# Altium footprint library Virtex.PcbLib: 30 footprints (part 2 of 2)
Each footprint in its own frame and in the unit in brackets; x right, y up, seen from the top. Pads: shape width x height; smd on the part's side, far side on the other; paste and mask are expansions set on the pad; w line width, h text height; cw(c..) or ccw(c..) is an arc to the next point about the centre after c.
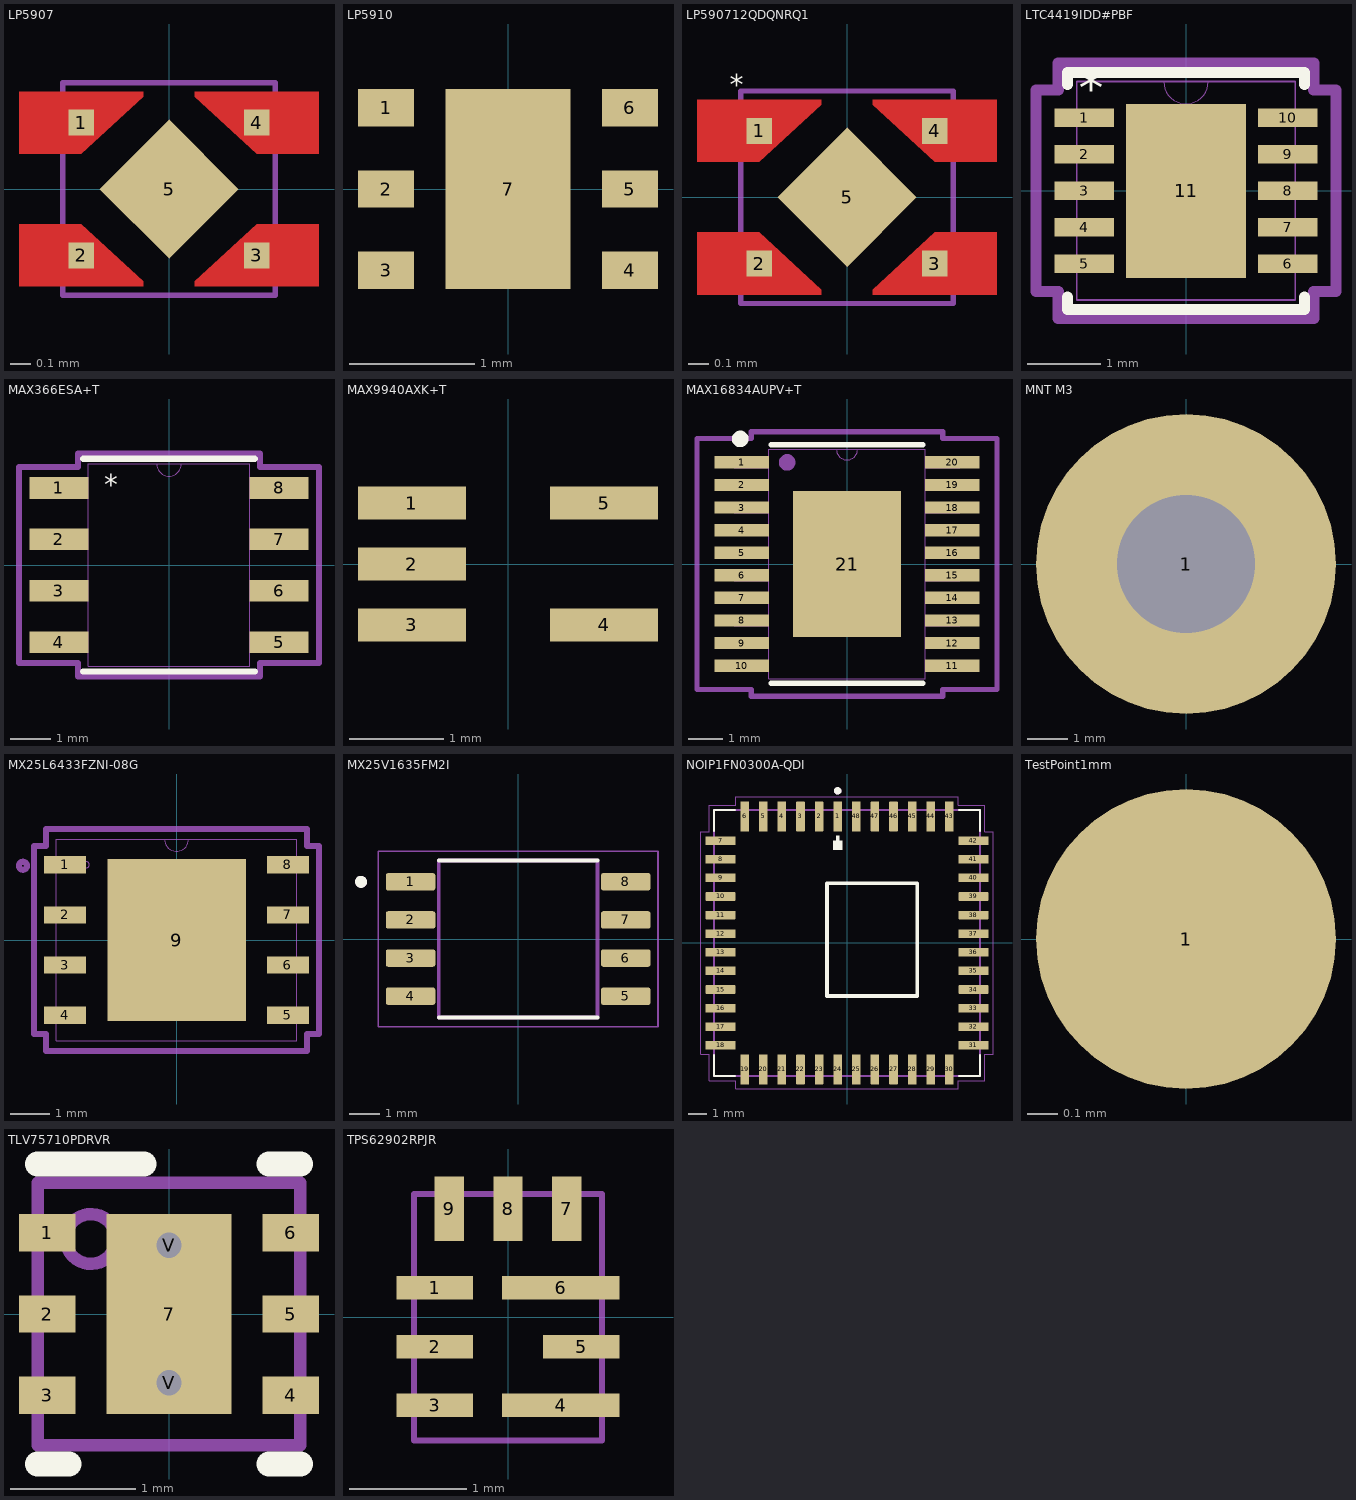
[diagram p1: the footprints below, top view; thin cyan lines are the x and y axes]

## LP5907 [mil]
pads (5):
  rect 5x5 smd: 1(-16.93,12.8) 2(-16.93,-12.8) 3(16.93,-12.8) 4(16.93,12.8)
  rect 19x19 smd rot 45 paste-9.5 mask+0: 5(0,0)
Top Layer:
  region: -4.93,17.8 -4.93,18.8 -28.93,18.8 -28.93,6.8 -16.93,6.8
  region: 4.93,17.8 4.93,18.8 28.93,18.8 28.93,6.8 16.93,6.8
  region: 4.93,-17.8 4.93,-18.8 28.93,-18.8 28.93,-6.8 16.93,-6.8
  region: 0,-9.5
  region: 0,9.5
  region: -4.93,-17.8 -4.93,-18.8 -28.93,-18.8 -28.93,-6.8 -16.93,-6.8
Top Solder:
  region: 0,-9.5
  region: 0,9.5
Mechanical 13:
  lines w1: -20.5,-20.5 -20.5,20.5 20.5,20.5 20.5,-20.5 -20.5,-20.5
  text "*" at -23.45,20.26 h3.94
3D body "LP590712QDQNRQ1.stp": height 14.39, standoff 0.21, extent -19.69,-19.68 19.68,19.69

## LP5910 [mm]
pads (7):
  rect 0.45x0.3 smd: 1(-0.975,0.65) 2(-0.975,0) 3(-0.975,-0.65) 4(0.975,-0.65) 5(0.975,0) 6(0.975,0.65)
  rect 1x1.6 smd: 7(0,0)
3D body "LP5910-18DRVR.step": height 0.8, standoff 0, extent -1,-1 1,1

## LP590712QDQNRQ1 [mil]
pads (5):
  rect 5x5 smd: 1(-16.93,12.8) 2(-16.93,-12.8) 3(16.93,-12.8) 4(16.93,12.8)
  rect 19x19 smd rot 45 paste-9.5 mask+0: 5(0,0)
Top Layer:
  region: -4.93,-17.8 -4.93,-18.8 -28.93,-18.8 -28.93,-6.8 -16.93,-6.8
  region: 0,9.5
  region: 0,-9.5
  region: 4.93,-17.8 4.93,-18.8 28.93,-18.8 28.93,-6.8 16.93,-6.8
  region: 4.93,17.8 4.93,18.8 28.93,18.8 28.93,6.8 16.93,6.8
  region: -4.93,17.8 -4.93,18.8 -28.93,18.8 -28.93,6.8 -16.93,6.8
Top Overlay:
  text "*" at -22.61,19.74 h3.94
Top Solder:
  region: 0,9.5
  region: 0,-9.5
Mechanical 13:
  lines w1: -20.5,-20.5 20.5,-20.5 20.5,20.5 -20.5,20.5 -20.5,-20.5
3D body "LP590712QDQNRQ1.stp": height 14.39, standoff 0.21, extent -19.69,-19.68 19.68,19.69

## LTC4419IDD#PBF [mil]
pads (11):
  rect 32x10 smd paste+0 mask+0: 1(-55,39.37) 2(-55,19.68) 3(-55,0) 4(-55,-19.68) 5(-55,-39.37) 6(55,-39.37) 7(55,-19.68) 8(55,0) 9(55,19.68) 10(55,39.37)
  rect 65x94 smd paste+0 mask+0: 11(0,0)
Top Overlay:
  lines w6: -64,-57.47 -64,-64 64,-64 64,-57.47 ; -64,57.47 -64,64 64,64 64,57.47
  text "*" at -58.03,45.69 h19.68
Mechanical 13:
  lines w0: -12,59 ccw(c0,59) 12,59
  lines w1: -59,-59 -59,59 59,59 59,-59 -59,-59
Mechanical 15:
  lines w6: -81,-54.37 -69,-54.37 -69,-69 69,-69 69,-54.37 81,-54.37 81,54.37 69,54.37 69,69 -69,69 -69,54.37 -81,54.37 -81,-54.37
3D body: height 10, standoff 0, extent 0,0 10,10
3D body "LTC4419IDD#PBF.step": height 31.5, standoff 0, extent -59,-59.06 59.11,59.06

## MAX366ESA+T [mil]
pads (8):
  rect 57.5x21 smd paste+0 mask+0: 1(-107.25,75) 2(-107.25,25) 3(-107.25,-25) 4(-107.25,-75) 5(107.25,-75) 6(107.25,-25) 7(107.25,25) 8(107.25,75)
Top Overlay:
  lines w6: -83.5,-103.5 83.5,-103.5 ; -83.5,103.5 83.5,103.5
  text "*" at -63,69 h19.68
Mechanical 13:
  lines w0: -12,98.5 ccw(c0,98.5) 12,98.5
  lines w1: -122,-84.5 -78.5,-84.5 -78.5,-65.5 -122,-65.5 -122,-84.5 ; -122,-34.5 -78.5,-34.5 -78.5,-15.5 -122,-15.5 -122,-34.5 ; -122,15.5 -78.5,15.5 -78.5,34.5 -122,34.5 -122,15.5 ; -122,65.5 -78.5,65.5 -78.5,84.5 -122,84.5 -122,65.5 ; -78.5,-98.5 -78.5,98.5 78.5,98.5 78.5,-98.5 -78.5,-98.5 ; 78.5,-84.5 122,-84.5 122,-65.5 78.5,-65.5 78.5,-84.5 ; 78.5,-34.5 122,-34.5 122,-15.5 78.5,-15.5 78.5,-34.5 ; 78.5,15.5 122,15.5 122,34.5 78.5,34.5 78.5,15.5 ; 78.5,65.5 122,65.5 122,84.5 78.5,84.5 78.5,65.5
  text "*" at -63,69 h19.68
Mechanical 15:
  lines w6: -146,-95.5 -88.5,-95.5 -88.5,-108.5 88.5,-108.5 88.5,-95.5 146,-95.5 146,95.5 88.5,95.5 88.5,108.5 -88.5,108.5 -88.5,95.5 -146,95.5 -146,-95.5
3D body: height 10, standoff 0, extent 0,0 10,10
3D body "MAX366ESA+T.step": height 69.09, standoff 0, extent -122,-97.5 122.01,99.51

## MAX9940AXK+T [mm]
pads (5):
  rect 1.15x0.35 smd paste+0 mask+0: 1(-1.025,0.65) 2(-1.025,0) 3(-1.025,-0.65) 4(1.025,-0.65) 5(1.025,0.65)
3D body "MAX9940.step": height 1.09, standoff 0, extent -1.194,-1.105 1.194,1.105

## MAX16834AUPV+T [mil]
pads (21):
  rect 61.5x14 smd paste+0 mask+0: 1(-119.25,115.16) 2(-119.25,89.57) 3(-119.25,63.98) 4(-119.25,38.39) 5(-119.25,12.8) 6(-119.25,-12.8) 7(-119.25,-38.39) 8(-119.25,-63.98) 9(-119.25,-89.57) 10(-119.25,-115.16) 11(119.25,-115.16) 12(119.25,-89.57) 13(119.25,-63.98) 14(119.25,-38.39) 15(119.25,-12.8) 16(119.25,12.8) 17(119.25,38.39) 18(119.25,63.98) 19(119.25,89.57) 20(119.25,115.16)
  rect 122x165 smd paste-82 mask+0: 21(0,0)
Top Overlay:
  circle w10: c-121.06,141.73 r4.4
  lines w6: -85.92,-135 85.92,-135 ; -85.92,135 85.92,135
Top Paste:
  region: 57.06,-31.44 3.94,-31.44 3.94,-78.56 57.06,-78.56
  region: 57.06,23.56 3.94,23.56 3.94,-23.56 57.06,-23.56
  region: 57.06,78.56 3.94,78.56 3.94,31.44 57.06,31.44
  region: -3.94,-31.44 -57.06,-31.44 -57.06,-78.56 -3.94,-78.56
  region: -3.94,23.56 -57.06,23.56 -57.06,-23.56 -3.94,-23.56
  region: -3.94,78.56 -57.06,78.56 -57.06,31.44 -3.94,31.44
Mechanical 13:
  circle w10: c-67.91,115.16 r4.4
  lines w0: -12,130 ccw(c0,130) 12,130
  lines w1: -128,-121.16 -88.5,-121.16 -88.5,-109.16 -128,-109.16 -128,-121.16 ; -128,-95.57 -88.5,-95.57 -88.5,-83.57 -128,-83.57 -128,-95.57 ; -128,-69.98 -88.5,-69.98 -88.5,-57.98 -128,-57.98 -128,-69.98 ; -128,-44.39 -88.5,-44.39 -88.5,-32.39 -128,-32.39 -128,-44.39 ; -128,-18.8 -88.5,-18.8 -88.5,-6.8 -128,-6.8 -128,-18.8 ; -128,6.8 -88.5,6.8 -88.5,18.8 -128,18.8 -128,6.8 ; -128,32.39 -88.5,32.39 -88.5,44.39 -128,44.39 -128,32.39 ; -128,57.98 -88.5,57.98 -88.5,69.98 -128,69.98 -128,57.98 ; -128,83.57 -88.5,83.57 -88.5,95.57 -128,95.57 -128,83.57 ; -128,109.16 -88.5,109.16 -88.5,121.16 -128,121.16 -128,109.16 ; -88.5,-130 -88.5,130 88.5,130 88.5,-130 -88.5,-130 ; 88.5,-121.16 128,-121.16 128,-109.16 88.5,-109.16 88.5,-121.16 ; 88.5,-95.57 128,-95.57 128,-83.57 88.5,-83.57 88.5,-95.57 ; 88.5,-69.98 128,-69.98 128,-57.98 88.5,-57.98 88.5,-69.98 ; 88.5,-44.39 128,-44.39 128,-32.39 88.5,-32.39 88.5,-44.39 ; 88.5,-18.8 128,-18.8 128,-6.8 88.5,-6.8 88.5,-18.8 ; 88.5,6.8 128,6.8 128,18.8 88.5,18.8 88.5,6.8 ; 88.5,32.39 128,32.39 128,44.39 88.5,44.39 88.5,32.39 ; 88.5,57.98 128,57.98 128,69.98 88.5,69.98 88.5,57.98 ; 88.5,83.57 128,83.57 128,95.57 88.5,95.57 88.5,83.57 ; 88.5,109.16 128,109.16 128,121.16 88.5,121.16 88.5,109.16
Mechanical 15:
  lines w6: -170,-142.16 -108.5,-142.16 -108.5,-150 108.5,-150 108.5,-142.16 170,-142.16 170,142.16 108.5,142.16 108.5,150 -108.5,150 -108.5,142.16 -170,142.16 -170,-142.16
3D body: height 10, standoff 0, extent 0,0 10,10
3D body "MAX16834AUPV+T.step": height 43.11, standoff -2.01, extent -127.99,-130 127.99,130

## MNT M3 [mm]
pads (1):
  round 7.4 hole 3.4 unplated: 1(0,0)

## MX25L6433FZNI-08G [mil]
pads (9):
  rect 42x17 smd paste+0 mask+0: 1(-111,75) 2(-111,25) 3(-111,-25) 4(-111,-75) 5(111,-75) 6(111,-25) 7(111,25) 8(111,75)
  rect 138x161 smd paste+0 mask+0: 9(0,0)
Top Paste:
  region: 65.06,-30.77 3.94,-30.77 3.94,-76.56 65.06,-76.56
  region: 65.06,22.9 3.94,22.9 3.94,-22.9 65.06,-22.9
  region: 65.06,76.56 3.94,76.56 3.94,30.77 65.06,30.77
  region: -3.94,-30.77 -65.06,-30.77 -65.06,-76.56 -3.94,-76.56
  region: -3.94,22.9 -65.06,22.9 -65.06,-22.9 -3.94,-22.9
  region: -3.94,76.56 -65.06,76.56 -65.06,30.77 -3.94,30.77
Mechanical 13:
  circle w6: c-153,74 r4
  circle w0: c-90,75 r3
  lines w0: -12,100.5 ccw(c0,100.5) 12,100.5
  lines w1: -120,-100.5 -120,100.5 120,100.5 120,-100.5 -120,-100.5
Mechanical 15:
  lines w6: -142,-93.5 -130,-93.5 -130,-110.5 130,-110.5 130,-93.5 142,-93.5 142,93.5 130,93.5 130,110.5 -130,110.5 -130,93.5 -142,93.5 -142,-93.5
3D body: height 10, standoff 0, extent 0,0 10,10
3D body "MX25L3233FZNI-08Q.step": height 32.09, standoff 0, extent -120,-100.51 120,100.52

## MX25V1635FM2I [mm]
pads (8):
  rrect25% 1.65x0.58 smd: 1(-3.585,1.905) 2(-3.585,0.635) 3(-3.585,-0.635) 4(-3.585,-1.905) 5(3.585,-1.905) 6(3.585,-0.635) 7(3.585,0.635) 8(3.585,1.905)
Top Overlay:
  circle w0.2: c-5.235,1.905 r0.1
  lines w0.127: -2.645,-2.62 2.645,-2.62 ; -2.645,2.62 2.645,2.62
Mechanical 13:
  circle w0.2: c-5.235,1.905 r0.1
  lines w0.127: -2.645,-2.62 2.645,-2.62 2.645,2.62 -2.645,2.62 -2.645,-2.62
Mechanical 15:
  lines w0.05: -4.66,-2.925 4.66,-2.925 4.66,2.925 -4.66,2.925 -4.66,-2.925
3D body "MX25V1635FM2I.step": height 1.95, standoff 0, extent -3.9,-2.64 3.95,2.64

## NOIP1FN0300A-QDI [mm]
pads (48):
  rrect12% 0.47x1.63 smd: 1(-0.508,6.905) 2(-1.524,6.905) 3(-2.54,6.905) 4(-3.556,6.905) 5(-4.572,6.905) 6(-5.588,6.905) 19(-5.588,-6.905) 20(-4.572,-6.905) 21(-3.556,-6.905) 22(-2.54,-6.905) 23(-1.524,-6.905) 24(-0.508,-6.905) 25(0.508,-6.905) 26(1.524,-6.905) 27(2.54,-6.905) 28(3.556,-6.905) 29(4.572,-6.905) 30(5.588,-6.905) 43(5.588,6.905) 44(4.572,6.905) 45(3.556,6.905) 46(2.54,6.905) 47(1.524,6.905) 48(0.508,6.905)
  rrect12% 1.63x0.47 smd: 7(-6.905,5.588) 8(-6.905,4.572) 9(-6.905,3.556) 10(-6.905,2.54) 11(-6.905,1.524) 12(-6.905,0.508) 13(-6.905,-0.508) 14(-6.905,-1.524) 15(-6.905,-2.54) 16(-6.905,-3.556) 17(-6.905,-4.572) 18(-6.905,-5.588) 31(6.905,-5.588) 32(6.905,-4.572) 33(6.905,-3.556) 34(6.905,-2.54) 35(6.905,-1.524) 36(6.905,-0.508) 37(6.905,0.508) 38(6.905,1.524) 39(6.905,2.54) 40(6.905,3.556) 41(6.905,4.572) 42(6.905,5.588)
Top Overlay:
  circle w0.2: c-0.508,8.306 r0.1
  rectangle: -0.762,5.08 -0.254,5.588
  rectangle: -0.608,5.486 -0.4,5.867
  lines w0.127: -7.26,-6.127 -7.26,-7.26 -6.127,-7.26 ; -7.26,6.127 -7.26,7.26 -6.127,7.26 ; 6.127,-7.26 7.26,-7.26 7.26,-6.127 ; 6.127,7.26 7.26,7.26 7.26,6.127
  lines w0.2: -1.088,-2.892 3.828,-2.892 3.828,3.252 -1.088,3.252 -1.088,-2.892
Mechanical 13:
  circle w0.2: c-0.508,8.306 r0.1
  lines w0.127: -7.26,-7.26 7.26,-7.26 7.26,7.26 -7.26,7.26 -7.26,-7.26
Mechanical 15:
  lines w0.05: -7.97,-6.08 -7.97,6.08 -7.51,6.08 -7.51,7.51 -6.08,7.51 -6.08,7.97 6.08,7.97 6.08,7.51 7.51,7.51 7.51,6.08 7.97,6.08 7.97,-6.08 7.51,-6.08 7.51,-7.51 6.08,-7.51 6.08,-7.97 -6.08,-7.97 -6.08,-7.51 -7.51,-7.51 -7.51,-6.08 -7.97,-6.08
3D body "NOIP1FN0300A-QDI.step": height 2.32, standoff 0.04, extent -7.11,-7.11 7.11,7.11

## TestPoint1mm [mm]
pads (1):
  round 1 smd: 1(0,0)

## TLV75710PDRVR [mm]
pads (9):
  rect 0.45x0.3 smd paste+0 mask+0: 1(-0.975,0.65) 2(-0.975,0) 3(-0.975,-0.65) 4(0.975,-0.65) 5(0.975,0) 6(0.975,0.65)
  rect 1x1.6 smd paste-0.5 mask+0: 7(0,0)
  round 0.5 hole 0.203 mask+0: V(0,-0.55) V(0,0.55)
Top Overlay:
  lines w0.2: -1.05,-1.2 -0.8,-1.2 ; -1.05,1.2 -0.2,1.2 ; 0.8,-1.2 1.05,-1.2 ; 0.8,1.2 1.05,1.2
Top Paste:
  region: -0.499,-0.761 -0.5,-0.751 -0.5,-0.149 -0.499,-0.139 -0.496,-0.13 -0.492,-0.122 -0.486,-0.114 -0.478,-0.108 -0.47,-0.104 -0.461,-0.101 -0.451,-0.1 0.451,-0.1 0.461,-0.101 0.47,-0.104 0.478,-0.108 0.486,-0.114 0.492,-0.122 0.496,-0.13 0.499,-0.139 0.5,-0.149 0.5,-0.751 0.499,-0.761 0.496,-0.77 0.492,-0.778 0.486,-0.786 0.478,-0.792 0.47,-0.796 0.461,-0.799 0.451,-0.8 -0.451,-0.8 -0.461,-0.799 -0.47,-0.796 -0.478,-0.792 -0.486,-0.786 -0.492,-0.778 -0.496,-0.77
  region: -0.499,0.139 -0.5,0.149 -0.5,0.751 -0.499,0.761 -0.496,0.77 -0.492,0.778 -0.486,0.786 -0.478,0.792 -0.47,0.796 -0.461,0.799 -0.451,0.8 0.451,0.8 0.461,0.799 0.47,0.796 0.478,0.792 0.486,0.786 0.492,0.778 0.496,0.77 0.499,0.761 0.5,0.751 0.5,0.149 0.499,0.139 0.496,0.13 0.492,0.122 0.486,0.114 0.478,0.108 0.47,0.104 0.461,0.101 0.451,0.1 -0.451,0.1 -0.461,0.101 -0.47,0.104 -0.478,0.108 -0.486,0.114 -0.492,0.122 -0.496,0.13
Mechanical 13:
  circle w0.1: c-0.625,0.6 r0.2
  lines w0.1: -1.05,-1.05 1.05,-1.05 1.05,1.05 -1.05,1.05 -1.05,-1.05
3D body: height 0.25, standoff 0, extent 0,0 0.254,0.254
3D body "TLV75710PDRVR.stp": height 0.8, standoff 0, extent -1,-1 1,1

## TPS62902RPJR [mm]
pads (9):
  rrect1% 0.65x0.2 smd: 1(-0.625,0.25) 2(-0.625,-0.25) 3(-0.625,-0.75) 5(0.625,-0.25)
  rrect1% 1x0.2 smd: 4(0.45,-0.75) 6(0.45,0.25)
  rrect1% 0.25x0.55 smd: 7(0.5,0.925) 8(0,0.925) 9(-0.5,0.925)
Mechanical 15:
  lines w0.05: -0.8,-1.05 -0.8,1.05 0.8,1.05 0.8,-1.05 -0.8,-1.05
3D body "TPS62902.stp": height 0.9, standoff 0, extent -0.75,-1 0.75,1